# Altium footprint library 5055750271.PcbLib: 1 footprints
Each footprint in its own frame and in the unit in brackets; x right, y up, seen from the top. Pads: shape width x height; smd on the part's side, far side on the other; paste and mask are expansions set on the pad; w line width, h text height; cw(c..) or ccw(c..) is an arc to the next point about the centre after c.
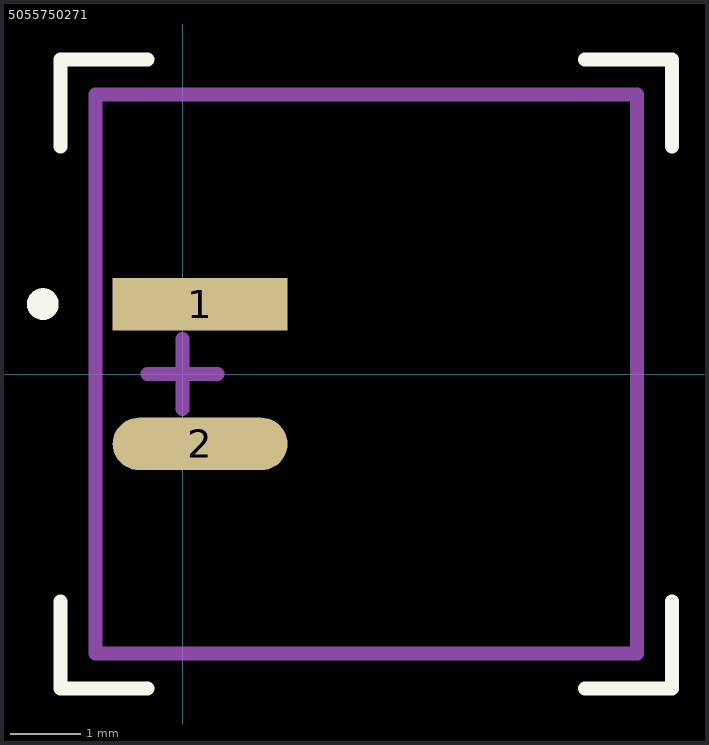
[diagram p0: the footprint, top view; thin cyan lines are the x and y axes]

## 5055750271 [mm]
pads (2):
  rect 2.5x0.75 smd: 1(0.25,1)
  oval 2.5x0.75 smd: 2(0.25,-1)
Top Overlay:
  circle w0.254: c-2,1 r0.1
  lines w0.2: -1.75,-3.25 -1.75,-4.5 -0.5,-4.5 ; -1.75,3.25 -1.75,4.5 -0.5,4.5 ; 5.75,-4.5 7,-4.5 7,-3.25 ; 5.75,4.5 7,4.5 7,3.25
Mechanical 13:
  lines w0.2: -1.25,-4 6.5,-4 6.5,4 -1.25,4 -1.25,-4
Mechanical 15:
  lines w0.2: 0,-0.5 0,0.5 0,0 -0.5,0 0.5,0
3D body "5055750271.stp": height 8.61, standoff 0.01, extent -1.2,-4 6.4,4